# Altium footprint library DFN200X300X65-9N.PcbLib: 1 footprints
Each footprint in its own frame and in the unit in brackets; x right, y up, seen from the top. Pads: shape width x height; smd on the part's side, far side on the other; paste and mask are expansions set on the pad; w line width, h text height; cw(c..) or ccw(c..) is an arc to the next point about the centre after c.
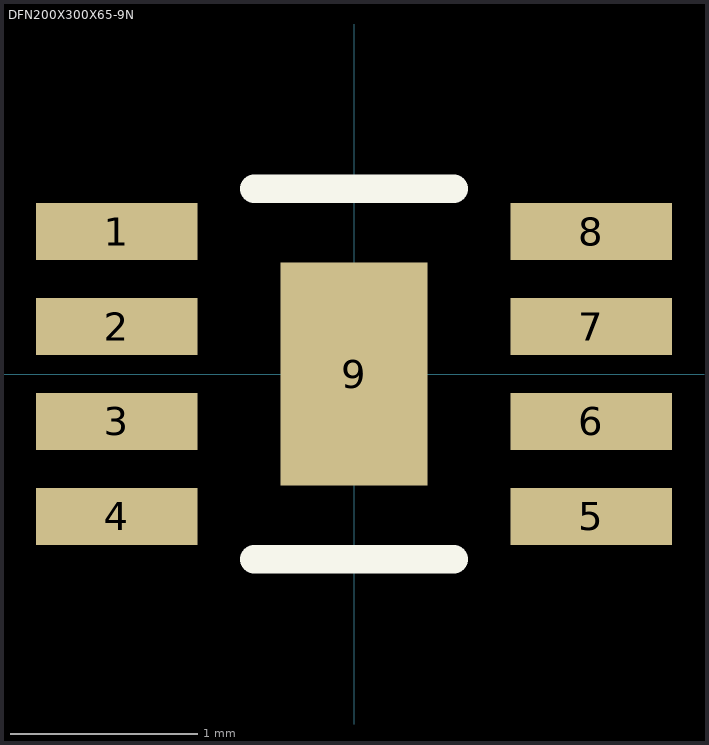
[diagram p0: the footprint, top view; thin cyan lines are the x and y axes]

## DFN200X300X65-9N [mil]
pads (9):
  rect 34x12 smd: 1(-50,30) 2(-50,10) 3(-50,-10) 4(-50,-30) 5(50,-30) 6(50,-10) 7(50,10) 8(50,30)
  rect 31x47 smd: 9(0,0)
L26-Silk Screen Top (Multiple PADS layers...):
  lines w6: -21,-39 21,-39 ; -21,39 21,39